# Altium footprint library LC-0603_x2.PcbLib: 1 footprints
Each footprint in its own frame and in the unit in brackets; x right, y up, seen from the top. Pads: shape width x height; smd on the part's side, far side on the other; paste and mask are expansions set on the pad; w line width, h text height; cw(c..) or ccw(c..) is an arc to the next point about the centre after c.
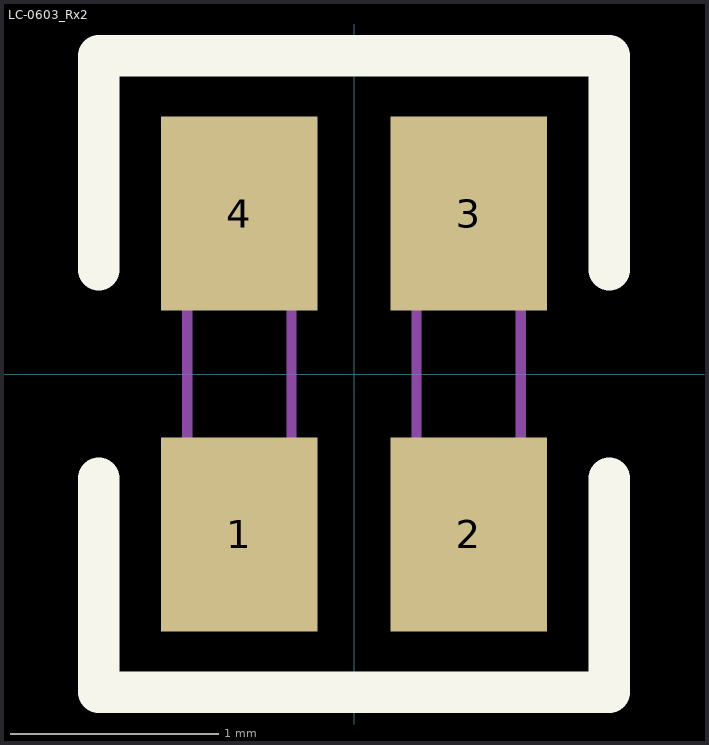
[diagram p0: the footprint, top view; thin cyan lines are the x and y axes]

## LC-0603_Rx2 [mm]
pads (4):
  rect 0.75x0.93 smd: 1(-0.55,-0.77) 2(0.55,-0.77) 3(0.55,0.77) 4(-0.55,0.77)
Top Overlay:
  lines w0.2: -1.225,-0.5 -1.225,-1.527 1.225,-1.527 1.225,-0.5 ; -1.225,0.5 -1.225,1.527 1.225,1.527 1.225,0.5
Mechanical 13:
  lines w0.05: -0.8,-0.8 -0.3,-0.8 -0.3,0.8 -0.8,0.8 -0.8,-0.8 ; 0.3,-0.8 0.8,-0.8 0.8,0.8 0.3,0.8 0.3,-0.8